# Altium schematic symbol library 4116R-1-511LF.SchLib: 1 symbol
Pins are listed as number, name and electrical type; pins without a type are passive.

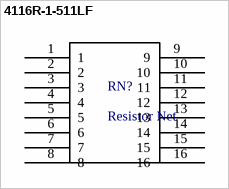
[diagram p0: symbol 4116R-1-511LF]

## 4116R-1-511LF
designator RN?, comment Resistor Net
Resistor net, 510Ohm, 2%, 2.25W. 16Pin DIP Thru Hole. 8 Resistors.
footprint DIP794W45P254L1969H508Q16
pins: 1, 2, 3, 4, 5, 6, 7, 8, 9, 10, 11, 12, 13, 14, 15, 16